# EAGLE library part MCP2518FDT-E (library nose-cone)
CAN Controller CAN 2.0 SPI Interface 14-VDFN (4.5x3) Check prices <https://pricing.snapeda.com/parts/MCP2518FDT-E/QBB/Microchip%20Technology/view-part?ref=eda>
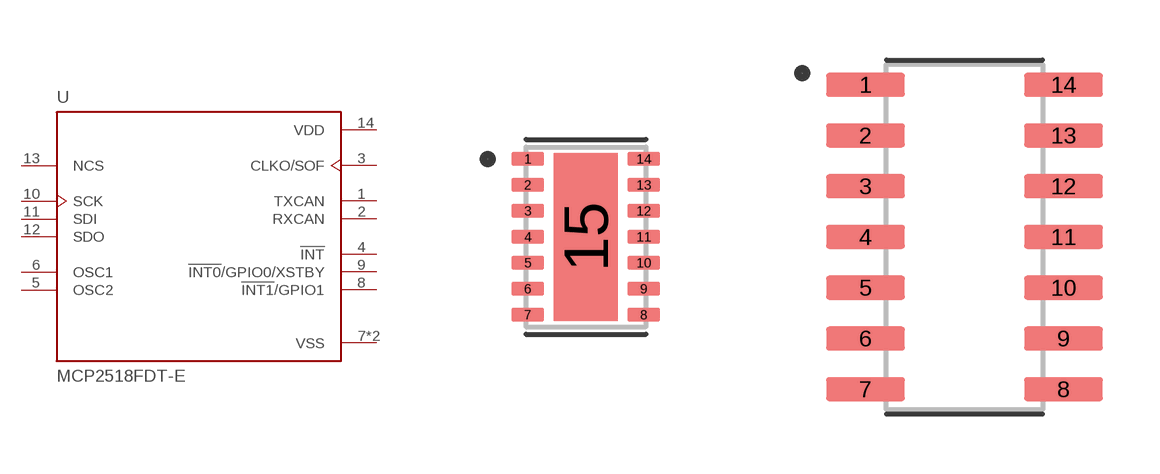
[diagram p0: symbol with the pads of SON65P450X300X90-15N; footprints SON65P450X300X90-15N, SOIC127P600X175-14N]

Designator prefix U

## MCP2518FDT-E/QBB (AVAILABILITY: Warning; DESCRIPTION: CAN Controller CAN 2.0 SPI Interface 14-VDFN (4.5x3); MF: Microchip Technology; MP: MCP2518FDT-E/QBB; PACKAGE: VDFN-14 Microchip Technology; PRICE: None; PURCHASE-URL: https://pricing.snapeda.com/search/part/MCP2518FDT-E/QBB/?ref=eda)  [SON65P450X300X90-15N]
1  TXCAN  out
2  RXCAN  in
3  CLKO/SOF  out
4  !INT  out
5  OSC2  out
6  OSC1  in
7  VSS  pwr
8  !INT1!/GPIO1
9  !INT0!/GPIO0/XSTBY
10  SCK  in
11  SDI  in
12  SDO  out
13  NCS  in
14  VDD  pwr
15  VSS  pwr

## MCP2518FDT-E/SL  [SOIC127P600X175-14N]
1  TXCAN  out
2  RXCAN  in
3  CLKO/SOF  out
4  !INT  out
5  OSC2  out
6  OSC1  in
7  VSS  pwr
8  !INT1!/GPIO1
9  !INT0!/GPIO0/XSTBY
10  SCK  in
11  SDI  in
12  SDO  out
13  NCS  in
14  VDD  pwr

## Footprint SON65P450X300X90-15N (pad centres in mm)
smd 0.81 x 0.34: 1 -1.45,1.95; 2 -1.45,1.3; 3 -1.45,0.65; 4 -1.45,0; 5 -1.45,-0.65; 6 -1.45,-1.3; 7 -1.45,-1.95; 8 1.45,-1.95; 9 1.45,-1.3; 10 1.45,-0.65; 11 1.45,0; 12 1.45,0.65; 13 1.45,1.3; 14 1.45,1.95
smd 1.6 x 4.2: 15 0,0

## Footprint SOIC127P600X175-14N (pad centres in mm)
smd 1.97 x 0.6: 1 -2.475,3.81; 2 -2.475,2.54; 3 -2.475,1.27; 4 -2.475,0; 5 -2.475,-1.27; 6 -2.475,-2.54; 7 -2.475,-3.81; 8 2.475,-3.81; 9 2.475,-2.54; 10 2.475,-1.27; 11 2.475,0; 12 2.475,1.27; 13 2.475,2.54; 14 2.475,3.81